# EAGLE library part NUP4302MR6 (library WaterDrop)
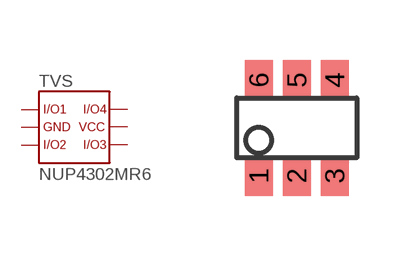
[diagram p2: symbol with the pads of TSOP-6; footprint TSOP-6]

Designator prefix TVS

## NUP4302MR6  [TSOP-6]
1  P$1
2  P$2
3  P$3
4  P$4
5  P$5
6  P$6

## Footprint TSOP-6 (pad centres in mm)
smd 0.7 x 1: 1 -0.95,-1.2; 2 0,-1.2; 3 0.95,-1.2; 4 0.95,1.2; 5 0,1.2; 6 -0.95,1.2